# Altium schematic symbol library Diode_LED_RGBW.Schlib: 1 symbol
Pins are listed as number, name and electrical type; pins without a type are passive.

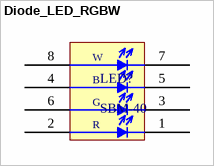
[diagram p0: symbol Diode_LED_RGBW]

## Diode_LED_RGBW
designator LED?, comment SBM-40
pins: 1 RK, 2 RA, 3 BK, 4 BA, 5 GK, 6 GA, 7 WK, 8 WA
text: W; B; G; R